# EAGLE library part UCC2871 (library ICs)
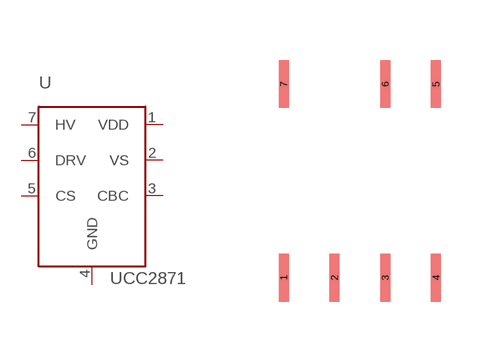
[diagram p12: symbol with the pads of SOIC7; footprint SOIC7]

Designator prefix -

## UCC2871  [SOIC7]
1  VDD
2  VS
3  CBC
4  GND
5  CS
6  DRV
7  HV

## Footprint SOIC7 (pad centres in mm)
smd 0.25 x 1.2: 1 0.635,-0.476; 2 1.905,-0.476; 3 3.175,-0.476; 4 4.445,-0.476; 5 4.445,4.366; 6 3.175,4.366; 7 0.635,4.366